# Altium schematic symbol library DF40B-60DS-0.4V(51).SchLib: 1 symbol
Pins are listed as number, name and electrical type; pins without a type are passive.

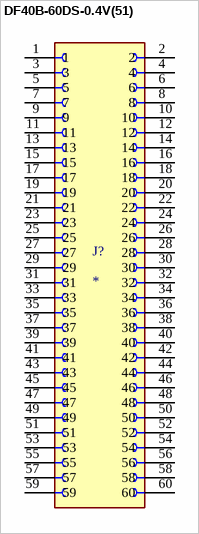
[diagram p0: symbol DF40B-60DS-0.4V(51)]

## DF40B-60DS-0.4V(51)
designator J?
MP: DF40B-60DS-0.4V(51); MF: {'manufacturer': u'Hirose Electric Co Ltd'}; Availability: Unavailable; Package: None; Price: None; Value: *
footprint HRS_DF40B-60DS-0.4V(51)
pins: 1, 2, 3, 4, 5, 6, 7, 8, 9, 10, 11, 12, 13, 14, 15, 16, 17, 18, 19, 20, 21, 22, 23, 24, 25, 26, 27, 28, 29, 30, 31, 32, 33, 34, 35, 36, 37, 38, 39, 40, 41, 42, 43, 44, 45, 46, 47, 48, 49, 50, 51, 52, 53, 54, 55, 56, 57, 58, 59, 60